# Altium footprint library Module.PcbLib: 23 footprints (part 1 of 2)
Each footprint in its own frame and in the unit in brackets; x right, y up, seen from the top. Pads: shape width x height; smd on the part's side, far side on the other; paste and mask are expansions set on the pad; w line width, h text height; cw(c..) or ccw(c..) is an arc to the next point about the centre after c.
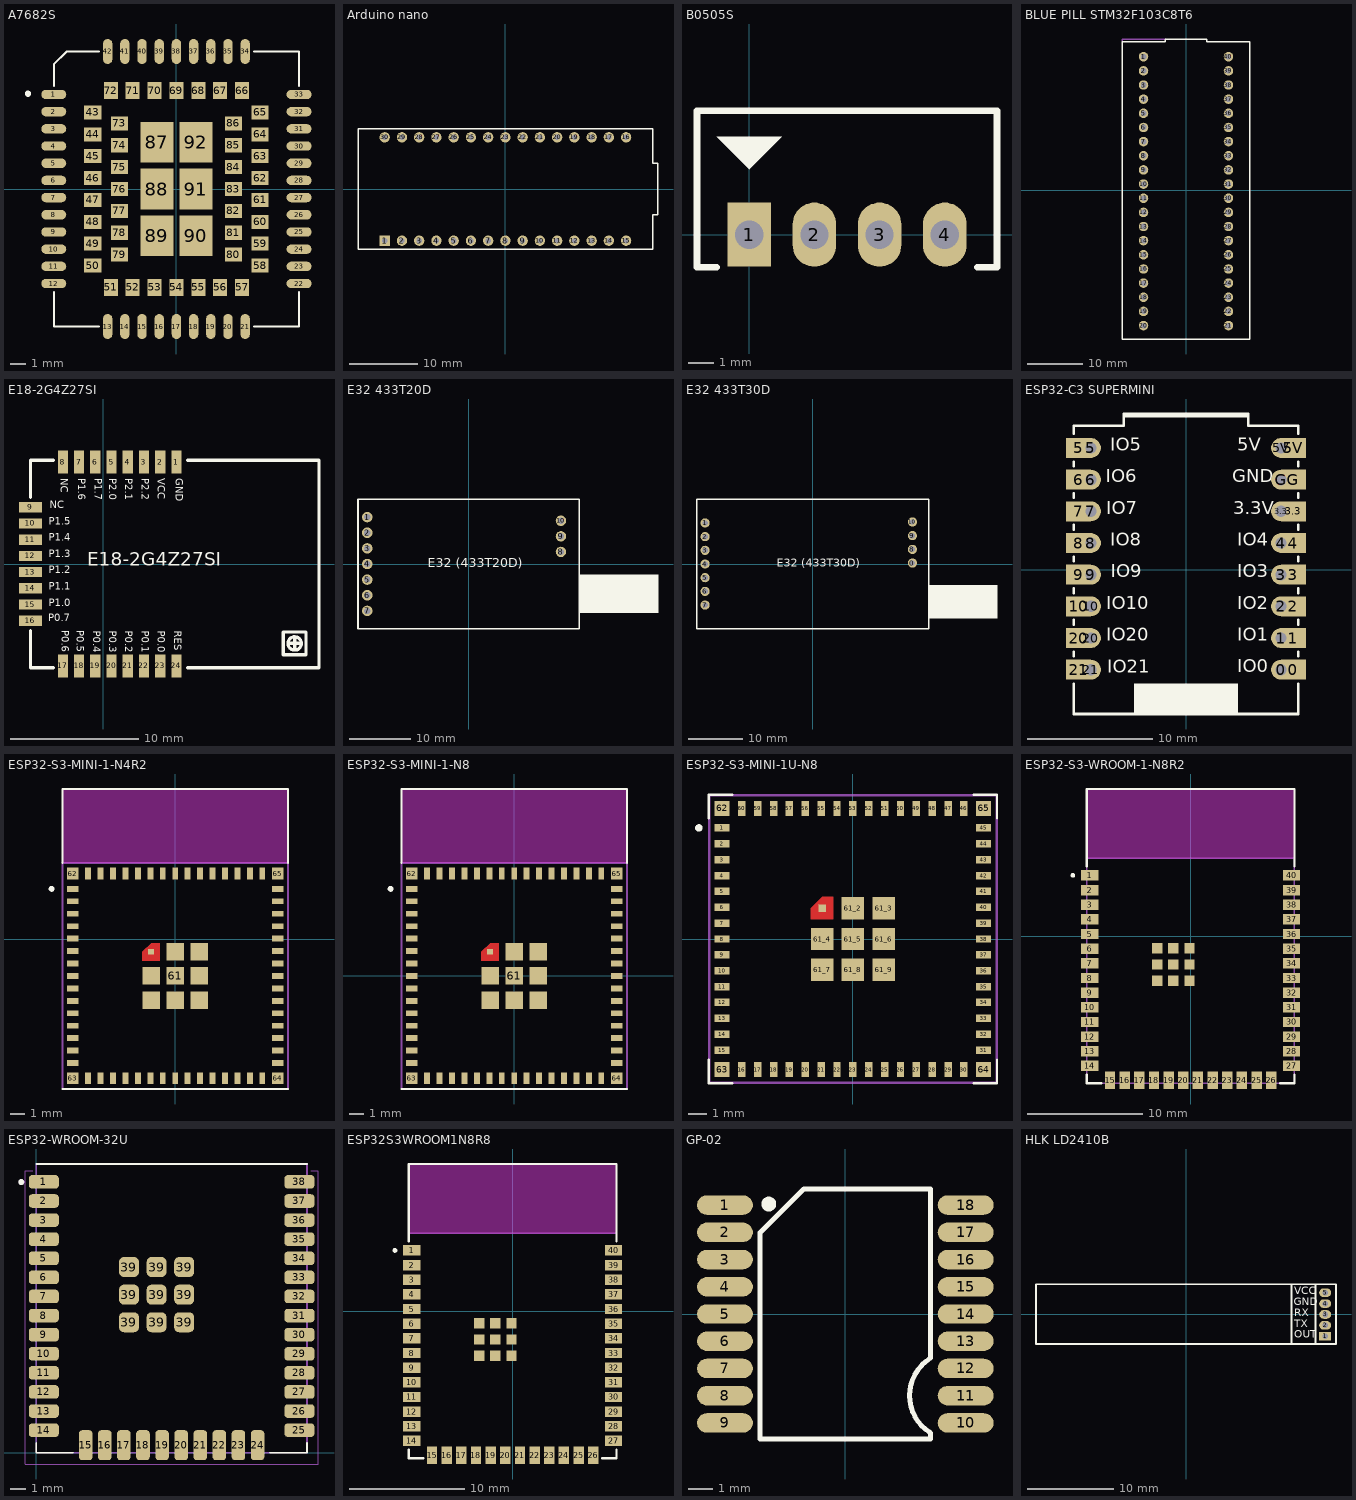
[diagram p0: the footprints below, top view; thin cyan lines are the x and y axes]

## A7682S [mm] "MODULE SIM A7682S"
pads (92):
  oval 1.6x0.6 smd: 1(-7.85,6.05) 2(-7.85,4.95) 3(-7.85,3.85) 4(-7.85,2.75) 5(-7.85,1.65) 6(-7.85,0.55) 7(-7.85,-0.55) 8(-7.85,-1.65) 9(-7.85,-2.75) 10(-7.85,-3.85) 11(-7.85,-4.95) 12(-7.85,-6.05) 22(7.85,-6.05) 23(7.85,-4.95) 24(7.85,-3.85) 25(7.85,-2.75) 26(7.85,-1.65) 27(7.85,-0.55) 28(7.85,0.55) 29(7.85,1.65) 30(7.85,2.75) 31(7.85,3.85) 32(7.85,4.95) 33(7.85,6.05)
  oval 0.6x1.6 smd: 13(-4.4,-8.8) 14(-3.3,-8.8) 15(-2.2,-8.8) 16(-1.1,-8.8) 17(0,-8.8) 18(1.1,-8.8) 19(2.2,-8.8) 20(3.3,-8.8) 21(4.4,-8.8) 34(4.4,8.8) 35(3.3,8.8) 36(2.2,8.8) 37(1.1,8.8) 38(0,8.8) 39(-1.1,8.8) 40(-2.2,8.8) 41(-3.3,8.8) 42(-4.4,8.8)
  rect 1.1x0.9 smd: 43(-5.35,4.9) 44(-5.35,3.5) 45(-5.35,2.1) 46(-5.35,0.7) 47(-5.35,-0.7) 48(-5.35,-2.1) 49(-5.35,-3.5) 50(-5.35,-4.9) 58(5.35,-4.9) 59(5.35,-3.5) 60(5.35,-2.1) 61(5.35,-0.7) 62(5.35,0.7) 63(5.35,2.1) 64(5.35,3.5) 65(5.35,4.9) 73(-3.65,4.2) 74(-3.65,2.8) 75(-3.65,1.4) 76(-3.65,0) 77(-3.65,-1.4) 78(-3.65,-2.8) 79(-3.65,-4.2) 80(3.65,-4.2) 81(3.65,-2.8) 82(3.65,-1.4) 83(3.65,0) 84(3.65,1.4) 85(3.65,2.8) 86(3.65,4.2)
  rect 0.9x1.1 smd: 51(-4.2,-6.3) 52(-2.8,-6.3) 53(-1.4,-6.3) 54(0,-6.3) 55(1.4,-6.3) 56(2.8,-6.3) 57(4.2,-6.3) 66(4.2,6.3) 67(2.8,6.3) 68(1.4,6.3) 69(0,6.3) 70(-1.4,6.3) 71(-2.8,6.3) 72(-4.2,6.3)
  rect 2.1x2.6 smd: 87(-1.25,3) 88(-1.25,0) 89(-1.25,-3) 90(1.25,-3) 91(1.25,0) 92(1.25,3)
Top Overlay:
  circle w0.2: c-9.5,6.1 r0.1
  lines w0.127: -7.85,-6.6 -7.85,-8.8 -4.95,-8.8 ; -7.85,6.6 -7.85,7.974 -7.024,8.8 -4.95,8.8 ; 4.95,-8.8 7.85,-8.8 7.85,-6.6 ; 4.95,8.8 7.85,8.8 7.85,6.6
3D body "step_temp.STEP": height 2.6, standoff 0, extent -7.85,-8.8 7.85,8.8

## Arduino nano [mil] "Arduino nano 328P"
height 1700
pads (30):
  rect 60x60 hole 30: 1(-700,-300)
  round 60 hole 30: 2(-600,-300) 3(-500,-300) 4(-400,-300) 5(-300,-300) 6(-200,-300) 7(-100,-300) 8(0,-300) 9(100,-300) 10(200,-300) 11(300,-300) 12(400,-300) 13(500,-300) 14(600,-300) 15(700,-300) 16(700,300) 17(600,300) 18(500,300) 19(400,300) 20(300,300) 21(200,300) 22(100,300) 23(0,300) 24(-100,300) 25(-200,300) 26(-300,300) 27(-400,300) 28(-500,300) 29(-600,300) 30(-700,300)
Top Overlay:
  lines w8: -855,-350 -855,350 853.5,350 853.5,150 885,150 885,-150 853.5,-150 853.5,-350 845,-350 -855,-350
3D body "Arduino_NANO_CH340.step": height 507.32, standoff -49.21, extent -854.73,-350 885.04,350

## B0505S [mm] "DIP"
pads (4):
  rect 1.7x2.5 hole 1.1: 1(0,0)
  oval 1.7x2.5 hole 1.1: 2(2.54,0) 3(5.08,0) 4(7.62,0)
Top Overlay:
  region: -1.27,3.81 1.27,3.81 0,2.54
  lines w0.254: -1.27,-1.27 -2.032,-1.27 -2.032,4.826 9.652,4.826 9.652,-1.27 8.89,-1.27
3D body "B0505s.step": height 10, standoff -3.6, extent -1.94,-1.27 9.56,4.73

## BLUE PILL STM32F103C8T6 [mm]
pads (40):
  round 1.7 hole 1: 1(-7.62,24.001) 2(-7.62,21.461) 3(-7.62,18.921) 4(-7.62,16.381) 5(-7.62,13.841) 6(-7.62,11.301) 7(-7.62,8.761) 8(-7.62,6.221) 9(-7.62,3.681) 10(-7.62,1.141) 11(-7.62,-1.399) 12(-7.62,-3.939) 13(-7.62,-6.479) 14(-7.62,-9.019) 15(-7.62,-11.559) 16(-7.62,-14.099) 17(-7.62,-16.639) 18(-7.62,-19.179) 19(-7.62,-21.719) 20(-7.62,-24.259) 21(7.62,-24.259) 22(7.62,-21.719) 23(7.62,-19.179) 24(7.62,-16.639) 25(7.62,-14.099) 26(7.62,-11.559) 27(7.62,-9.019) 28(7.62,-6.479) 29(7.62,-3.939) 30(7.62,-1.399) 31(7.62,1.141) 32(7.62,3.681) 33(7.62,6.221) 34(7.62,8.761) 35(7.62,11.301) 36(7.62,13.841) 37(7.62,16.381) 38(7.62,18.921) 39(7.62,21.461) 40(7.62,24.001)
Top Overlay:
  lines w0.254: -11.43,-26.67 11.43,-26.67 11.43,26.67 3.7,26.67 3.7,27.178 -3.7,27.178 -3.7,26.67 -11.43,26.67 -11.43,-26.67
Mechanical 1:
  lines w0.254: -11.43,26.67 -11.43,27.178 -3.7,27.178
3D body "Blue Pill STM32.step": height 19, standoff -1.1, extent -11.43,-31.242 11.43,27.178

## E18-2G4Z27SI [mm] "22.5mm*16mm*2.40mm-S"
pads (24):
  rect 0.8x1.8 smd: 1(5.716,7.987) 2(4.446,7.987) 3(3.176,7.987) 4(1.906,7.987) 5(0.636,7.987) 6(-0.634,7.987) 7(-1.904,7.987) 8(-3.174,7.987) 17(-3.174,-7.987) 18(-1.904,-7.987) 19(-0.634,-7.987) 20(0.636,-7.987) 21(1.906,-7.987) 22(3.176,-7.987) 23(4.446,-7.987) 24(5.716,-7.987)
  rect 1.8x0.8 smd: 9(-5.716,4.445) 10(-5.716,3.175) 11(-5.716,1.905) 12(-5.716,0.635) 13(-5.716,-0.635) 14(-5.716,-1.905) 15(-5.716,-3.175) 16(-5.716,-4.445)
Top Overlay:
  circle w0.254: c14.983,-6.225 r0.524
  lines w0.254: -5.715,-5.207 -5.715,-8.128 -3.937,-8.128 ; -5.715,5.207 -5.715,8.128 -3.937,8.128 ; 6.604,-8.128 16.891,-8.128 16.891,8.128 6.604,8.128 ; 14.459,-6.218 15.507,-6.218 15.507,-6.225 ; 14.983,-5.702 14.983,-6.742 14.99,-6.749 ; 14.097,-7.112 14.097,-5.334 15.867,-5.334 15.867,-7.112 14.097,-7.112
  text "P0.7" at -4.332,-4.698 h1
  text "P1.0" at -4.275,-3.496 h1
  text "P1.1" at -4.275,-2.226 h1
  text "P1.2" at -4.275,-0.93 h1
  text "P1.3" at -4.275,0.34 h1
  text "P1.4" at -4.275,1.61 h1
  text "P1.5" at -4.275,2.88 h1
  text "NC" at -3.552,6.702 h1
  text "RES" at 5.338,-5.236 h1
  text "P0.0" at 4.068,-5.236 h1
  text "P0.1" at 2.798,-5.236 h1
  text "P0.2" at 1.528,-5.236 h1
  text "P0.3" at 0.258,-5.236 h1
  text "P0.4" at -1.012,-5.236 h1
  text "P0.5" at -2.3,-5.206 h1
  text "P0.6" at -3.443,-5.206 h1
  text "NC" at -4.205,4.192 h1
  text "P1.6" at -2.155,6.702 h1
  text "P1.7" at -0.885,6.702 h1
  text "P2.0" at 0.258,6.702 h1
  text "P2.1" at 1.528,6.702 h1
  text "P2.2" at 2.798,6.702 h1
  text "VCC" at 4.068,6.702 h1
  text "E18-2G4Z27SI" at -1.27,-0.508 h1.8
  text "GND" at 5.465,6.702 h1
3D body "User Library-E18-MS1PA1-IPX.STEP": height 2.4, standoff -0.01, extent -5.746,-8.098 16.864,8.122

## E32 433T20D [mm]
pads (10):
  round 1.7 hole 1: 1(-16.5,7.62) 2(-16.5,5.08) 3(-16.5,2.54) 4(-16.5,0) 5(-16.5,-2.54) 6(-16.5,-5.08) 7(-16.5,-7.62) 8(15,1.96) 9(15,4.5) 10(15,7.04)
Top Overlay:
  region: 18,-7.95 30.78,-7.95 30.78,-1.75 18,-1.75
  lines w0.254: -18,-10.5 -18,10.5 18,10.5 18,-10.5 -18,-10.5
  text "E32 (433T20D)" at -6.676,-1.026 h2.5
3D body "E32-TTL-100 module without ant.STEP": height 13.01, standoff -1.53, extent -18,-10.5 30.78,10.5

## E32 433T30D [mm]
pads (11):
  round 1.7 hole 1: 0(18.5,0.18) 1(-20,7.62) 2(-20,5.08) 3(-20,2.54) 4(-20,0) 5(-20,-2.54) 6(-20,-5.08) 7(-20,-7.62) 8(18.5,2.72) 9(18.5,5.26) 10(18.5,7.8)
Top Overlay:
  region: 21.42,-10.1 34.2,-10.1 34.2,-3.9 21.42,-3.9
  lines w0.254: -21.5,-12 21.5,-12 21.5,12 -21.5,12 -21.5,-12
  text "E32 (433T30D)" at -6.676,-1.026 h2.5
3D body "E32-868T30D_Assembly_with_UART_Header.STEP": height 13.07, standoff -1.59, extent -21.5,-12 34.2,12

## ESP32-C3 SUPERMINI [mm]
pads (32):
  round 1.6 hole 0.9: 0(7.62,-8.005) 1(7.62,-5.465) 2(7.62,-2.925) 3(7.62,-0.385) 3.3(7.62,4.695) 4(7.62,2.155) 5(-7.62,9.775) 5V(7.62,9.775) 6(-7.62,7.235) 7(-7.62,4.695) 8(-7.62,2.155) 9(-7.62,-0.385) 10(-7.62,-2.925) 20(-7.62,-5.465) 21(-7.62,-8.005) G(7.62,7.235)
  rect 2x1.6 smd: 0(8.62,-8.005) 1(8.62,-5.465) 2(8.62,-2.925) 3(8.62,-0.385) 3.3(8.62,4.695) 4(8.62,2.155) 5(-8.62,9.775) 5V(8.62,9.775) 6(-8.62,7.235) 7(-8.62,4.695) 8(-8.62,2.155) 9(-8.62,-0.385) 10(-8.62,-2.925) 20(-8.62,-5.465) 21(-8.62,-8.005) G(8.62,7.235)
Top Overlay:
  region: -4.142,-11.557 -4.142,-9.119 4.142,-9.119 4.142,-11.557
  lines w0.203: -9.013,0.681 -9.013,1.062 ; -9.011,-6.944 -9.011,-6.563 ; -9.003,5.766 -9.003,6.147 ; -9,-9.144 -9,-11.557 9,-11.557 9,-9.144 ; -9,-4.397 -9,-4.016 ; -9,10.922 -9,11.557 -5,11.557 -5,12.5 ; -8.996,3.221 -8.996,3.602 ; -8.986,8.306 -8.986,8.687 ; -8.983,-1.857 -8.983,-1.476 ; 8.987,0.681 8.987,1.062 ; 8.989,-6.944 8.989,-6.563 ; 8.997,5.766 8.997,6.147 ; 9,-4.397 9,-4.016 ; 9,10.922 9,11.557 5,11.557 5,12.5 ; 9.004,3.221 9.004,3.602 ; 9.014,8.306 9.014,8.687 ; 9.017,-1.857 9.017,-1.476 ; -5,12.5 -5,12.319 5,12.319 5,12.5 ; -5,12.5 5,12.5
  text "IO5" at -6.056,9.189 h1.8
  text "IO6" at -6.451,6.649 h1.8
  text "IO7" at -6.383,4.109 h1.8
  text "IO8" at -6.061,1.569 h1.8
  text "IO9" at -6.049,-0.971 h1.8
  text "IO10" at -6.404,-3.511 h1.8
  text "IO20" at -6.404,-6.051 h1.8
  text "IO21" at -6.331,-8.591 h1.8
  text "5V" at 4.115,9.193 h1.8
  text "GND" at 3.709,6.653 h1.8
  text "3.3V" at 3.777,4.113 h1.8
  text "IO4" at 4.099,1.573 h1.8
  text "IO3" at 4.111,-0.967 h1.8
  text "IO2" at 4.115,-3.507 h1.8
  text "IO1" at 4.115,-6.047 h1.8
  text "IO0" at 4.115,-8.587 h1.8
3D body "ESP32 C3 Super mini.STEP": height 4.3, standoff 0.19, extent -9,-11.5 9,12.5

## ESP32-S3-MINI-1-N4R2 [mm] "ESP32-S3-MINI-1-N4R2"
height 2.55
pads (73):
  rect 0.8x0.4 smd: 1(-7,3.425) 2(-7,2.575) 3(-7,1.725) 4(-7,0.875) 5(-7,0.025) 6(-7,-0.825) 7(-7,-1.675) 8(-7,-2.525) 9(-7,-3.375) 10(-7,-4.225) 11(-7,-5.075) 12(-7,-5.925) 13(-7,-6.775) 14(-7,-7.625) 15(-7,-8.475) 31(7,-8.475) 32(7,-7.625) 33(7,-6.775) 34(7,-5.925) 35(7,-5.075) 36(7,-4.225) 37(7,-3.375) 38(7,-2.525) 39(7,-1.675) 40(7,-0.825) 41(7,0.025) 42(7,0.875) 43(7,1.725) 44(7,2.575) 45(7,3.425)
  rect 0.4x0.8 smd: 16(-5.95,-9.525) 17(-5.1,-9.525) 18(-4.25,-9.525) 19(-3.4,-9.525) 20(-2.55,-9.525) 21(-1.7,-9.525) 22(-0.85,-9.525) 23(0,-9.525) 24(0.85,-9.525) 25(1.7,-9.525) 26(2.55,-9.525) 27(3.4,-9.525) 28(4.25,-9.525) 29(5.1,-9.525) 30(5.95,-9.525) 46(5.95,4.475) 47(5.1,4.475) 48(4.25,4.475) 49(3.4,4.475) 50(2.55,4.475) 51(1.7,4.475) 52(0.85,4.475) 53(0,4.475) 54(-0.85,4.475) 55(-1.7,4.475) 56(-2.55,4.475) 57(-3.4,4.475) 58(-4.25,4.475) 59(-5.1,4.475) 60(-5.95,4.475)
  rect 1.2x1.2 smd: 61(0,-2.525) 61_2(0,-0.875) 61_3(1.65,-0.875) 61_4(1.65,-2.525) 61_5(1.65,-4.175) 61_6(0,-4.175) 61_7(-1.65,-4.175) 61_8(-1.65,-2.525)
  rect 0.4x0.4 smd paste-1 mask+0: 61_1(-1.65,-0.875)
  rect 0.8x0.8 smd: 62(-7,4.475) 63(-7,-9.525) 64(7,-9.525) 65(7,4.475)
Top Layer:
  region: -1.05,-1.475 -2.25,-1.475 -2.25,-0.875 -1.65,-0.275 -1.05,-0.275
Top Overlay:
  circle w0.2: c-8.45,3.425 r0.1
  lines w0.127: -7.7,-10.25 7.7,-10.25 ; -7.7,5.2 -7.7,10.25 7.7,10.25 7.7,5.2
Top Paste:
  region: -1.05,-1.475 -2.25,-1.475 -2.25,-0.875 -1.65,-0.275 -1.05,-0.275
Top Solder:
  region: -0.95,-1.575 -2.35,-1.575 -2.35,-0.825 -1.7,-0.175 -0.95,-0.175
Keep-Out Layer:
  region: 7.7,5.2 -7.7,5.2 -7.7,10.25 7.7,10.25
  region: 7.7,5.2 -7.7,5.2 -7.7,10.25 7.7,10.25
Mechanical 1:
  lines w0.127: -7.7,-10.25 -7.7,5.2 7.7,5.2 7.7,-10.25
3D body "step_temp.STEP": height 2.6, standoff 0.05, extent -7.7,-10.25 7.7,10.25

## ESP32-S3-MINI-1-N8 [mm] "ESP32-S3-MINI-1-N8"
height 2.55
pads (73):
  rect 0.8x0.4 smd: 1(-7,5.95) 2(-7,5.1) 3(-7,4.25) 4(-7,3.4) 5(-7,2.55) 6(-7,1.7) 7(-7,0.85) 8(-7,0) 9(-7,-0.85) 10(-7,-1.7) 11(-7,-2.55) 12(-7,-3.4) 13(-7,-4.25) 14(-7,-5.1) 15(-7,-5.95) 31(7,-5.95) 32(7,-5.1) 33(7,-4.25) 34(7,-3.4) 35(7,-2.55) 36(7,-1.7) 37(7,-0.85) 38(7,0) 39(7,0.85) 40(7,1.7) 41(7,2.55) 42(7,3.4) 43(7,4.25) 44(7,5.1) 45(7,5.95)
  rect 0.4x0.8 smd: 16(-5.95,-7) 17(-5.1,-7) 18(-4.25,-7) 19(-3.4,-7) 20(-2.55,-7) 21(-1.7,-7) 22(-0.85,-7) 23(0,-7) 24(0.85,-7) 25(1.7,-7) 26(2.55,-7) 27(3.4,-7) 28(4.25,-7) 29(5.1,-7) 30(5.95,-7) 46(5.95,7) 47(5.1,7) 48(4.25,7) 49(3.4,7) 50(2.55,7) 51(1.7,7) 52(0.85,7) 53(0,7) 54(-0.85,7) 55(-1.7,7) 56(-2.55,7) 57(-3.4,7) 58(-4.25,7) 59(-5.1,7) 60(-5.95,7)
  rect 1.2x1.2 smd: 61(0,0) 61_2(0,1.65) 61_3(1.65,1.65) 61_4(1.65,0) 61_5(1.65,-1.65) 61_6(0,-1.65) 61_7(-1.65,-1.65) 61_8(-1.65,0)
  rect 0.4x0.4 smd paste-1 mask+0: 61_1(-1.65,1.65)
  rect 0.8x0.8 smd: 62(-7,7) 63(-7,-7) 64(7,-7) 65(7,7)
Top Layer:
  region: -1.05,1.05 -2.25,1.05 -2.25,1.65 -1.65,2.25 -1.05,2.25
Top Overlay:
  circle w0.2: c-8.45,5.95 r0.1
  lines w0.127: -7.7,-7.725 7.7,-7.725 ; -7.7,7.725 -7.7,12.775 7.7,12.775 7.7,7.725
Top Paste:
  region: -1.05,1.05 -2.25,1.05 -2.25,1.65 -1.65,2.25 -1.05,2.25
Top Solder:
  region: -0.95,0.95 -2.35,0.95 -2.35,1.7 -1.7,2.35 -0.95,2.35
Keep-Out Layer:
  region: 7.7,7.725 -7.7,7.725 -7.7,12.775 7.7,12.775
  region: 7.7,7.725 -7.7,7.725 -7.7,12.775 7.7,12.775
Mechanical 1:
  lines w0.127: -7.7,-7.725 -7.7,7.725 7.7,7.725 7.7,-7.725
3D body "step_temp.STEP": height 2.6, standoff 0.05, extent -7.7,-7.725 7.7,12.775

## ESP32-S3-MINI-1U-N8 [mm] "ESP32-S3-MINI-1U-N8"
height 2.55
pads (73):
  rect 0.8x0.4 smd: 1(-7,5.95) 2(-7,5.1) 3(-7,4.25) 4(-7,3.4) 5(-7,2.55) 6(-7,1.7) 7(-7,0.85) 8(-7,0) 9(-7,-0.85) 10(-7,-1.7) 11(-7,-2.55) 12(-7,-3.4) 13(-7,-4.25) 14(-7,-5.1) 15(-7,-5.95) 31(7,-5.95) 32(7,-5.1) 33(7,-4.25) 34(7,-3.4) 35(7,-2.55) 36(7,-1.7) 37(7,-0.85) 38(7,0) 39(7,0.85) 40(7,1.7) 41(7,2.55) 42(7,3.4) 43(7,4.25) 44(7,5.1) 45(7,5.95)
  rect 0.4x0.8 smd: 16(-5.95,-7) 17(-5.1,-7) 18(-4.25,-7) 19(-3.4,-7) 20(-2.55,-7) 21(-1.7,-7) 22(-0.85,-7) 23(0,-7) 24(0.85,-7) 25(1.7,-7) 26(2.55,-7) 27(3.4,-7) 28(4.25,-7) 29(5.1,-7) 30(5.95,-7) 46(5.95,7) 47(5.1,7) 48(4.25,7) 49(3.4,7) 50(2.55,7) 51(1.7,7) 52(0.85,7) 53(0,7) 54(-0.85,7) 55(-1.7,7) 56(-2.55,7) 57(-3.4,7) 58(-4.25,7) 59(-5.1,7) 60(-5.95,7)
  rect 0.4x0.4 smd paste-1 mask+0: 61_1(-1.65,1.65)
  rect 1.2x1.2 smd: 61_2(0,1.65) 61_3(1.65,1.65) 61_4(-1.65,0) 61_5(0,0) 61_6(1.65,0) 61_7(-1.65,-1.65) 61_8(0,-1.65) 61_9(1.65,-1.65)
  rect 0.8x0.8 smd: 62(-7,7) 63(-7,-7) 64(7,-7) 65(7,7)
Top Layer:
  region: -1.05,1.05 -2.25,1.05 -2.25,1.65 -1.65,2.25 -1.05,2.25
Top Overlay:
  circle w0.2: c-8.25,5.95 r0.1
  lines w0.127: -7.72,-6.47 -7.72,-7.72 -6.47,-7.72 ; -7.72,6.47 -7.72,7.72 -6.47,7.72 ; 6.47,-7.72 7.72,-7.72 7.72,-6.47 ; 6.47,7.72 7.72,7.72 7.72,6.47
Top Paste:
  region: -1.05,1.05 -2.25,1.05 -2.25,1.65 -1.65,2.25 -1.05,2.25
Top Solder:
  region: -0.95,0.95 -2.35,0.95 -2.35,1.7 -1.7,2.35 -0.95,2.35
Mechanical 1:
  lines w0.127: -7.7,-7.7 7.7,-7.7 7.7,7.7 -7.7,7.7 -7.7,-7.7
3D body "step_temp.STEP": height 2.6, standoff 0.05, extent -7.7,-7.7 7.7,7.7

## ESP32-S3-WROOM-1-N8R2 [mm] "ESP32-S3-WROOM-1-N8R2"
height 3.25
pads (49):
  rect 1.5x0.9 smd: 1(-8.75,5.26) 2(-8.75,3.99) 3(-8.75,2.72) 4(-8.75,1.45) 5(-8.75,0.18) 6(-8.75,-1.09) 7(-8.75,-2.36) 8(-8.75,-3.63) 9(-8.75,-4.9) 10(-8.75,-6.17) 11(-8.75,-7.44) 12(-8.75,-8.71) 13(-8.75,-9.98) 14(-8.75,-11.25) 27(8.75,-11.25) 28(8.75,-9.98) 29(8.75,-8.71) 30(8.75,-7.44) 31(8.75,-6.17) 32(8.75,-4.9) 33(8.75,-3.63) 34(8.75,-2.36) 35(8.75,-1.09) 36(8.75,0.18) 37(8.75,1.45) 38(8.75,2.72) 39(8.75,3.99) 40(8.75,5.26)
  rect 0.9x1.5 smd: 15(-6.985,-12.5) 16(-5.715,-12.5) 17(-4.445,-12.5) 18(-3.175,-12.5) 19(-1.905,-12.5) 20(-0.635,-12.5) 21(0.635,-12.5) 22(1.905,-12.5) 23(3.175,-12.5) 24(4.445,-12.5) 25(5.715,-12.5) 26(6.985,-12.5)
  rect 0.9x0.9 smd: 41_1(-1.5,-2.46) 41_2(-2.9,-2.46) 41_3(-0.1,-2.46) 41_4(-2.9,-3.86) 41_5(-1.5,-3.86) 41_6(-0.1,-3.86) 41_7(-2.9,-1.06) 41_8(-1.5,-1.06) 41_9(-0.1,-1.06)
Top Overlay:
  circle w0.2: c-10.2,5.26 r0.1
  lines w0.203: -9,-12.02 -9,-12.75 -7.755,-12.75 ; -9,6.03 -9,12.75 9,12.75 9,6.03 ; 7.755,-12.75 9,-12.75 9,-12.02
Keep-Out Layer:
  region: 9,6.75 -9,6.75 -9,12.75 9,12.75
  region: 9,6.75 -9,6.75 -9,12.75 9,12.75
Mechanical 1:
  lines w0.127: -9,-12.75 9,-12.75 9,6.75 -9,6.75 -9,-12.75
  text "ANTENNA" at -4.5,9.5 h1.27
3D body "step_temp.STEP": height 3.3, standoff 0.05, extent -9,-12.75 9,12.75

## ESP32-WROOM-32U [mm] "ESP32-WROOM-32U"
pads (47):
  rrect50% 2x0.9 smd: 1(0.5,18.01) 2(0.5,16.74) 3(0.5,15.47) 4(0.5,14.2) 5(0.5,12.93) 6(0.5,11.66) 7(0.5,10.39) 8(0.5,9.12) 9(0.5,7.85) 10(0.5,6.58) 11(0.5,5.31) 12(0.5,4.04) 13(0.5,2.77) 14(0.5,1.5) 25(17.5,1.5) 26(17.5,2.77) 27(17.5,4.04) 28(17.5,5.31) 29(17.5,6.58) 30(17.5,7.85) 31(17.5,9.12) 32(17.5,10.39) 33(17.5,11.66) 34(17.5,12.93) 35(17.5,14.2) 36(17.5,15.47) 37(17.5,16.74) 38(17.5,18.01)
  rrect50% 0.9x2 smd: 15(3.285,0.5) 16(4.555,0.5) 17(5.825,0.5) 18(7.095,0.5) 19(8.365,0.5) 20(9.635,0.5) 21(10.905,0.5) 22(12.175,0.5) 23(13.445,0.5) 24(14.715,0.5)
  rrect50% 1.33x1.33 smd: 39(6.165,8.675) 39(6.165,10.51) 39(6.165,12.345) 39(8,8.675) 39(8,10.51) 39(8,12.345) 39(9.835,8.675) 39(9.835,10.51) 39(9.835,12.345)
Top Overlay:
  circle w0.2: c-1,18 r0.1
  lines w0.127: 0,0.65 0,0 2.45,0 ; 0,19.2 18,19.2 ; 15.55,0 18,0 18,0.65
Mechanical 13:
  circle w0.2: c-1,18 r0.1
  lines w0.127: 0,19.2 0,0 18,0 18,19.2
Mechanical 15:
  lines w0.05: -0.25,18.75 -0.75,18.75 -0.75,-0.75 18.75,-0.75 18.75,18.75 18.25,18.75
3D body "ESp32-WROOM-32U v3.step": height 3.4, standoff -0.04, extent -0.035,-0.04 18.035,19.2

## ESP32S3WROOM1N8R8 [mm] "ESP32S3WROOM1N8R8"
pads (49):
  rect 1.5x0.9 smd: 1(-8.75,5.26) 2(-8.75,3.99) 3(-8.75,2.72) 4(-8.75,1.45) 5(-8.75,0.18) 6(-8.75,-1.09) 7(-8.75,-2.36) 8(-8.75,-3.63) 9(-8.75,-4.9) 10(-8.75,-6.17) 11(-8.75,-7.44) 12(-8.75,-8.71) 13(-8.75,-9.98) 14(-8.75,-11.25) 27(8.75,-11.25) 28(8.75,-9.98) 29(8.75,-8.71) 30(8.75,-7.44) 31(8.75,-6.17) 32(8.75,-4.9) 33(8.75,-3.63) 34(8.75,-2.36) 35(8.75,-1.09) 36(8.75,0.18) 37(8.75,1.45) 38(8.75,2.72) 39(8.75,3.99) 40(8.75,5.26)
  rect 0.9x1.5 smd: 15(-6.985,-12.5) 16(-5.715,-12.5) 17(-4.445,-12.5) 18(-3.175,-12.5) 19(-1.905,-12.5) 20(-0.635,-12.5) 21(0.635,-12.5) 22(1.905,-12.5) 23(3.175,-12.5) 24(4.445,-12.5) 25(5.715,-12.5) 26(6.985,-12.5)
  rect 0.9x0.9 smd: 41_1(-1.5,-2.46) 41_2(-2.9,-2.46) 41_3(-0.1,-2.46) 41_4(-2.9,-3.86) 41_5(-1.5,-3.86) 41_6(-0.1,-3.86) 41_7(-2.9,-1.06) 41_8(-1.5,-1.06) 41_9(-0.1,-1.06)
Top Overlay:
  circle w0.203: c-10.2,5.26 r0.102
  lines w0.203: -9,-12.02 -9,-12.75 -7.755,-12.75 ; -9,6.03 -9,12.75 9,12.75 9,6.03 ; 7.755,-12.75 9,-12.75 9,-12.02
Keep-Out Layer:
  region: 9,6.75 -9,6.75 -9,12.75 9,12.75
  region: 9,6.75 -9,6.75 -9,12.75 9,12.75
Mechanical 1:
  lines w0.127: -9,6.75 9,6.75
  text "ANTENNA" at -4.5,9.5 h1.27
3D body "step_temp.STEP": height 3.25, standoff 0, extent -9,-12.75 9,12.75

## GP-02 [mm] "GP-02"
pads (18):
  oval 2.3x0.8 smd: 1(-4.95,4.48) 2(-4.95,3.36) 3(-4.95,2.24) 4(-4.95,1.12) 5(-4.95,0) 6(-4.95,-1.12) 7(-4.95,-2.24) 8(-4.95,-3.36) 9(-4.95,-4.48) 10(4.95,-4.48) 11(4.95,-3.36) 12(4.95,-2.24) 13(4.95,-1.12) 14(4.95,0) 15(4.95,1.12) 16(4.95,2.24) 17(4.95,3.36) 18(4.95,4.48)
Top Overlay:
  circle w0.356: c-3.15,4.521 r0.127
  lines w0.203: 3.5,-1.816 3.5,5.15 -1.7,5.15 -3.5,3.35 -3.5,-5.15 3.5,-5.15 3.5,-4.886 cw(c4.44,-3.353) 3.505,-1.816
3D body "GP-02 v3.step": height 2.65, standoff 0.05, extent -4.95,-5.17 4.95,5.15

## HLK LD2410B [mm]
pads (5):
  rect 1.4x1 hole 0.65: 1(16.23,-2.58)
  oval 1.4x1 hole 0.65: 2(16.23,-1.31) 3(16.23,-0.04) 4(16.23,1.23) 5(16.23,2.5)
Top Overlay:
  lines w0.203: 12.3,-3.487 12.3,3.487 ; 15.1,-3.487 15.1,3.487 ; -17.487,-3.487 -17.487,3.487 17.487,3.487 17.487,-3.487 -17.487,-3.487
  text "OUT" at 12.61,-3.064 h1.5
  text "TX" at 12.61,-1.794 h1.5
  text "RX" at 12.61,-0.524 h1.5
  text "GND" at 12.569,0.746 h1.5
  text "VCC" at 12.603,2.016 h1.5
3D body "LD2410B.step": height 2.47, standoff -1.56, extent -17.487,-3.487 17.487,3.487